# Altium footprint library CH340E.PcbLib: 1 footprints
Each footprint in its own frame and in the unit in brackets; x right, y up, seen from the top. Pads: shape width x height; smd on the part's side, far side on the other; paste and mask are expansions set on the pad; w line width, h text height; cw(c..) or ccw(c..) is an arc to the next point about the centre after c.
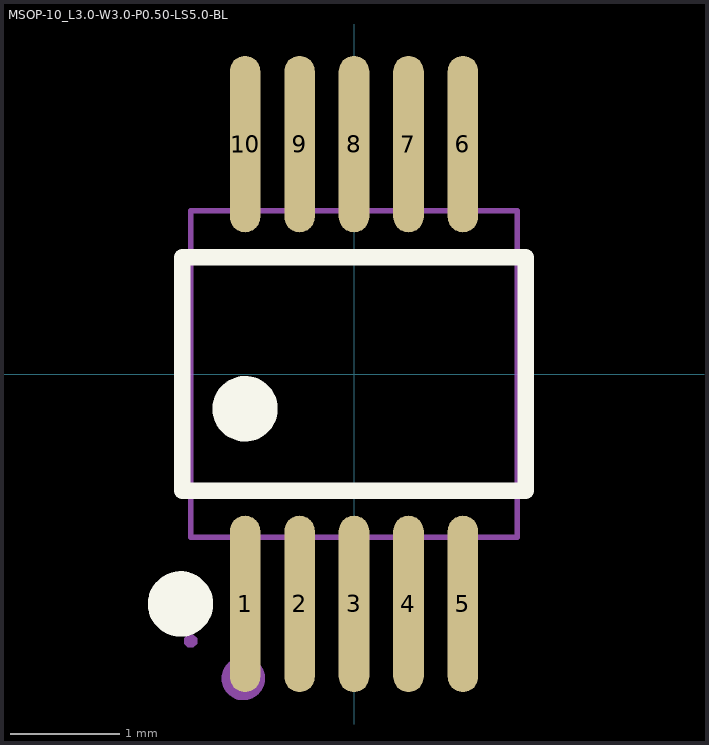
[diagram p0: the footprint, top view; thin cyan lines are the x and y axes]

## MSOP-10_L3.0-W3.0-P0.50-LS5.0-BL [mm]
pads (10):
  oval 0.28x1.62 smd: 1(-1,-2.11) 2(-0.5,-2.11) 3(0,-2.11) 4(0.5,-2.11) 5(1,-2.11) 6(1,2.11) 7(0.5,2.11) 8(0,2.11) 9(-0.5,2.11) 10(-1,2.11)
Top Overlay:
  circle w0.3: c-1.592,-2.11 r0.15
  circle w0.3: c-1,-0.319 r0.15
  lines w0.152: -1.576,-1.071 1.576,-1.071 1.576,1.071 -1.576,1.071 -1.576,-1.071
Mechanical 6:
  circle w0.2: c-1.016,-2.794 r0.1
Mechanical 15:
  region: 0.888,1.91 0.888,1.49 1.112,1.49 1.112,1.91
  region: 0.888,2.45 0.888,1.9 1.112,1.9 1.112,2.45
  region: 0.388,1.91 0.388,1.49 0.612,1.49 0.612,1.91
  region: 0.388,2.45 0.388,1.9 0.612,1.9 0.612,2.45
  region: -0.112,1.91 -0.112,1.49 0.112,1.49 0.112,1.91
  region: -0.112,2.45 -0.112,1.9 0.112,1.9 0.112,2.45
  region: -0.612,1.91 -0.612,1.49 -0.388,1.49 -0.388,1.91
  region: -0.612,2.45 -0.612,1.9 -0.388,1.9 -0.388,2.45
  region: -1.112,1.91 -1.112,1.49 -0.888,1.49 -0.888,1.91
  region: -1.112,2.45 -1.112,1.9 -0.888,1.9 -0.888,2.45
  region: 0.888,-1.91 0.888,-1.49 1.112,-1.49 1.112,-1.91
  region: 0.888,-2.45 0.888,-1.9 1.112,-1.9 1.112,-2.45
  region: 0.388,-1.91 0.388,-1.49 0.612,-1.49 0.612,-1.91
  region: 0.388,-2.45 0.388,-1.9 0.612,-1.9 0.612,-2.45
  region: -0.112,-1.91 -0.112,-1.49 0.112,-1.49 0.112,-1.91
  region: -0.112,-2.45 -0.112,-1.9 0.112,-1.9 0.112,-2.45
  region: -0.612,-1.91 -0.612,-1.49 -0.388,-1.49 -0.388,-1.91
  region: -0.612,-2.45 -0.612,-1.9 -0.388,-1.9 -0.388,-2.45
  region: -1.112,-1.91 -1.112,-1.49 -0.888,-1.49 -0.888,-1.91
  region: -1.112,-2.45 -1.112,-1.9 -0.888,-1.9 -0.888,-2.45
  region: -1.44,-2.45 -1.44,-2.426 -1.475,-2.391 -1.524,-2.391 -1.559,-2.426 -1.56,-2.45 -1.559,-2.475 -1.524,-2.509 -1.475,-2.509 -1.44,-2.475 -1.44,-2.45
  lines w0.051: -1.5,-1.5 1.5,-1.5 1.5,1.5 -1.5,1.5 -1.5,-1.5
3D body "CH340E.SLDPRT": height 1.12, standoff 0.01, extent -1.535,-2.5 1.465,2.5